# EAGLE library part UCC28056* (library BW-Active)
Transition-Mode PFC Boost Controller
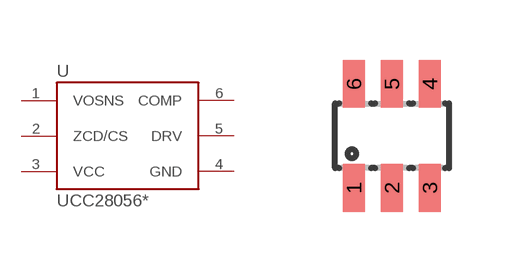
[diagram p12: symbol with the pads of SOT23-6L; footprint SOT23-6L]

Designator prefix U

## UCC28056, UCC28056A, UCC28056B, UCC28056C  [SOT23-6L]
1  VOSNS
2  ZCD/CS
3  VCC
4  GND
5  DRV
6  COMP

## Footprint SOT23-6L (pad centres in mm)
Small Outline Transistor
smd 0.55 x 1.2: 1 -0.95,-1.3; 2 0,-1.3; 3 0.95,-1.3; 4 0.95,1.3; 5 0,1.3; 6 -0.95,1.3